# Altium footprint library CONN_805_24P.PcbLib: 1 footprints
Each footprint in its own frame and in the unit in brackets; x right, y up, seen from the top. Pads: shape width x height; smd on the part's side, far side on the other; paste and mask are expansions set on the pad; w line width, h text height; cw(c..) or ccw(c..) is an arc to the next point about the centre after c.
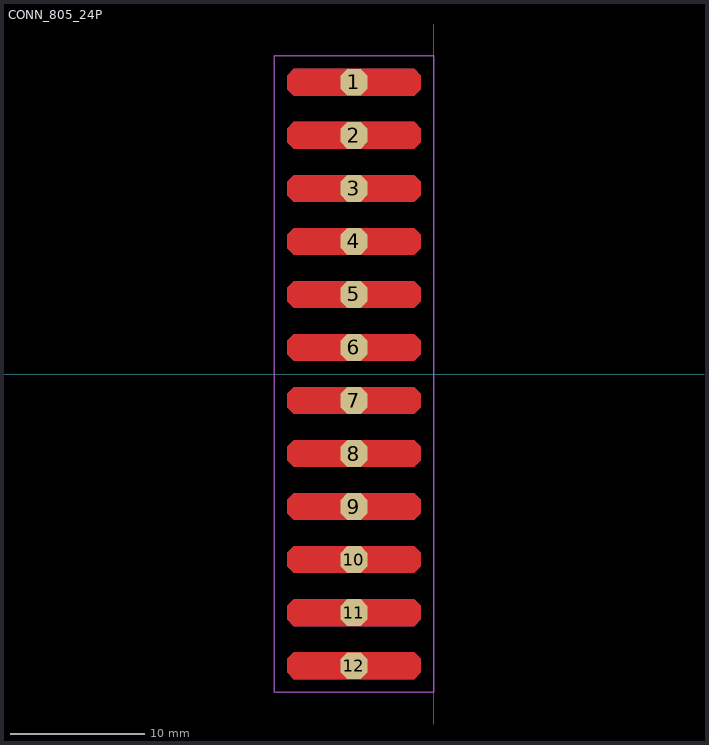
[diagram p0: the footprint, top view; thin cyan lines are the x and y axes]

## CONN_805_24P [mm]
pads (24):
  oct 2x2 smd: 1(-5.94,21.78) 2(-5.94,17.82) 3(-5.94,13.86) 4(-5.94,9.9) 5(-5.94,5.94) 6(-5.94,1.98) 7(-5.94,-1.98) 8(-5.94,-5.94) 9(-5.94,-9.9) 10(-5.94,-13.86) 11(-5.94,-17.82) 12(-5.94,-21.78)
  round 0.025 smd far side: 13(-5.94,-21.78) 14(-5.94,-17.82) 15(-5.94,-13.86) 16(-5.94,-9.9) 17(-5.94,-5.94) 18(-5.94,-1.98) 19(-5.94,1.98) 20(-5.94,5.94) 21(-5.94,9.9) 22(-5.94,13.86) 23(-5.94,17.82) 24(-5.94,21.78)
Top Layer:
  region: -10.44,0.98 -10.94,1.48 -10.94,2.48 -10.44,2.98 -1.44,2.98 -0.94,2.48 -0.94,1.48 -1.44,0.98
  region: -10.44,4.94 -10.94,5.44 -10.94,6.44 -10.44,6.94 -1.44,6.94 -0.94,6.44 -0.94,5.44 -1.44,4.94
  region: -10.44,-2.98 -10.94,-2.48 -10.94,-1.48 -10.44,-0.98 -1.44,-0.98 -0.94,-1.48 -0.94,-2.48 -1.44,-2.98
  region: -10.44,-6.94 -10.94,-6.44 -10.94,-5.44 -10.44,-4.94 -1.44,-4.94 -0.94,-5.44 -0.94,-6.44 -1.44,-6.94
  region: -10.44,-10.9 -10.94,-10.4 -10.94,-9.4 -10.44,-8.9 -1.44,-8.9 -0.94,-9.4 -0.94,-10.4 -1.44,-10.9
  region: -10.44,8.9 -10.94,9.4 -10.94,10.4 -10.44,10.9 -1.44,10.9 -0.94,10.4 -0.94,9.4 -1.44,8.9
  region: -10.44,12.86 -10.94,13.36 -10.94,14.36 -10.44,14.86 -1.44,14.86 -0.94,14.36 -0.94,13.36 -1.44,12.86
  region: -10.44,16.82 -10.94,17.32 -10.94,18.32 -10.44,18.82 -1.44,18.82 -0.94,18.32 -0.94,17.32 -1.44,16.82
  region: -10.44,20.78 -10.94,21.28 -10.94,22.28 -10.44,22.78 -1.44,22.78 -0.94,22.28 -0.94,21.28 -1.44,20.78
  region: -10.44,-14.86 -10.94,-14.36 -10.94,-13.36 -10.44,-12.86 -1.44,-12.86 -0.94,-13.36 -0.94,-14.36 -1.44,-14.86
  region: -10.44,-18.82 -10.94,-18.32 -10.94,-17.32 -10.44,-16.82 -1.44,-16.82 -0.94,-17.32 -0.94,-18.32 -1.44,-18.82
  region: -10.44,-22.78 -10.94,-22.28 -10.94,-21.28 -10.44,-20.78 -1.44,-20.78 -0.94,-21.28 -0.94,-22.28 -1.44,-22.78
Bottom Layer:
  region: -10.44,-14.86 -10.94,-14.36 -10.94,-13.36 -10.44,-12.86 -1.44,-12.86 -0.94,-13.36 -0.94,-14.36 -1.44,-14.86
  region: -10.44,-2.98 -10.94,-2.48 -10.94,-1.48 -10.44,-0.98 -1.44,-0.98 -0.94,-1.48 -0.94,-2.48 -1.44,-2.98
  region: -10.44,0.98 -10.94,1.48 -10.94,2.48 -10.44,2.98 -1.44,2.98 -0.94,2.48 -0.94,1.48 -1.44,0.98
  region: -10.44,-6.94 -10.94,-6.44 -10.94,-5.44 -10.44,-4.94 -1.44,-4.94 -0.94,-5.44 -0.94,-6.44 -1.44,-6.94
  region: -10.44,-10.9 -10.94,-10.4 -10.94,-9.4 -10.44,-8.9 -1.44,-8.9 -0.94,-9.4 -0.94,-10.4 -1.44,-10.9
  region: -10.44,4.94 -10.94,5.44 -10.94,6.44 -10.44,6.94 -1.44,6.94 -0.94,6.44 -0.94,5.44 -1.44,4.94
  region: -10.44,8.9 -10.94,9.4 -10.94,10.4 -10.44,10.9 -1.44,10.9 -0.94,10.4 -0.94,9.4 -1.44,8.9
  region: -10.44,12.86 -10.94,13.36 -10.94,14.36 -10.44,14.86 -1.44,14.86 -0.94,14.36 -0.94,13.36 -1.44,12.86
  region: -10.44,16.82 -10.94,17.32 -10.94,18.32 -10.44,18.82 -1.44,18.82 -0.94,18.32 -0.94,17.32 -1.44,16.82
  region: -10.44,-18.82 -10.94,-18.32 -10.94,-17.32 -10.44,-16.82 -1.44,-16.82 -0.94,-17.32 -0.94,-18.32 -1.44,-18.82
  region: -10.44,-22.78 -10.94,-22.28 -10.94,-21.28 -10.44,-20.78 -1.44,-20.78 -0.94,-21.28 -0.94,-22.28 -1.44,-22.78
  region: -10.44,20.78 -10.94,21.28 -10.94,22.28 -10.44,22.78 -1.44,22.78 -0.94,22.28 -0.94,21.28 -1.44,20.78
Top Assembly:
  lines w0.1: -11.88,-23.76 0,-23.76 0,23.76 -3.21,23.76 -8.67,23.76 -11.88,23.76 -11.88,-23.76
  text "'.Designator'" at -3.965,-0.292 h0.7